# Altium footprint library PHD2.0.PcbLib: 19 footprints (part 2 of 2)
Each footprint in its own frame and in the unit in brackets; x right, y up, seen from the top. Pads: shape width x height; smd on the part's side, far side on the other; paste and mask are expansions set on the pad; w line width, h text height; cw(c..) or ccw(c..) is an arc to the next point about the centre after c.
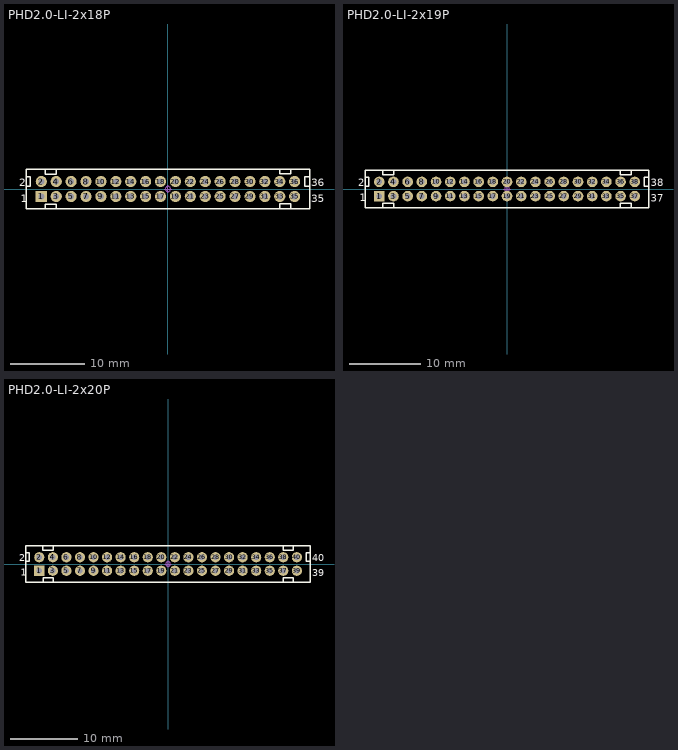
[diagram p1: the footprints below, top view; thin cyan lines are the x and y axes]

## PHD2.0-LI-2x18P [mm] "36脚，长：38mm，宽：5mm，高：6.5mm"
pads (36):
  rect 1.5x1.5 hole 0.8: 1(-17,-1)
  round 1.5 hole 0.8: 2(-17,1) 3(-15,-1) 4(-15,1) 5(-13,-1) 6(-13,1) 7(-11,-1) 8(-11,1) 9(-9,-1) 10(-9,1) 11(-7,-1) 12(-7,1) 13(-5,-1) 14(-5,1) 15(-3,-1) 16(-3,1) 17(-1,-1) 18(-1,1) 19(1,-1) 20(1,1) 21(3,-1) 22(3,1) 23(5,-1) 24(5,1) 25(7,-1) 26(7,1) 27(9,-1) 28(9,1) 29(11,-1) 30(11,1) 31(13,-1) 32(13,1) 33(15,-1) 34(15,1) 35(17,-1) 36(17,1)
Top Overlay:
  lines w0.2: -19,0.381 -18.492,0.381 -18.492,1.651 -19,1.651 ; -16.5,-2.667 -16.5,-2.032 -14.976,-2.032 -14.976,-2.667 ; -16.5,2.667 -16.5,2 -14.976,2 -14.976,2.667 ; 14.976,-2.667 14.976,-2 16.5,-2 16.5,-2.667 ; 14.976,2.667 14.976,2.032 16.5,2.032 16.5,2.667 ; 19,0.381 18.365,0.381 18.365,1.651 19,1.651 ; -19,-2.667 -19,2.667 19,2.667 19,-2.667 -19,-2.667
  text "2" at -19.996,0.381 h1.02
  text "1" at -19.75,-1.75 h1.02
  text "35" at 19.254,-1.778 h1.02
  text "36" at 19.254,0.381 h1.02
Bottom Overlay:
  lines w0.381: -17.5,0 17.5,0 ; -16,-1.5 -16,1.5 ; -14,-1.5 -14,1.5 ; -12,-1.5 -12,1.5 ; -10,-1.5 -10,1.5 ; -8,-1.5 -8,1.5 ; -6,-1.5 -6,1.5 ; -4,-1.5 -4,1.5 ; -2,-1.5 -2,1.5 ; 0,-1.5 0,1.5 ; 2,-1.5 2,1.5 ; 4,-1.5 4,1.5 ; 6,-1.5 6,1.5 ; 8,-1.5 8,1.5 ; 10,-1.5 10,1.5 ; 12,-1.5 12,1.5 ; 14,-1.5 14,1.5 ; 16,-1.5 16,1.5
Mechanical 15:
  circle w0.05: c0,0 r0.35
  lines w0.05: -0.5,0 0.5,0 ; 0,-0.5 0,0.5
3D body: height 6.55, standoff -2.75, extent -19,-2.5 19,2.5

## PHD2.0-LI-2x19P [mm] "38脚，长：40mm，宽：5mm，高：6.5mm"
pads (38):
  rect 1.5x1.5 hole 0.8: 1(-18,-1)
  round 1.5 hole 0.8: 2(-18,1) 3(-16,-1) 4(-16,1) 5(-14,-1) 6(-14,1) 7(-12,-1) 8(-12,1) 9(-10,-1) 10(-10,1) 11(-8,-1) 12(-8,1) 13(-6,-1) 14(-6,1) 15(-4,-1) 16(-4,1) 17(-2,-1) 18(-2,1) 19(0,-1) 20(0,1) 21(2,-1) 22(2,1) 23(4,-1) 24(4,1) 25(6,-1) 26(6,1) 27(8,-1) 28(8,1) 29(10,-1) 30(10,1) 31(12,-1) 32(12,1) 33(14,-1) 34(14,1) 35(16,-1) 36(16,1) 37(18,-1) 38(18,1)
Top Overlay:
  lines w0.2: -20,0.381 -19.492,0.381 -19.492,1.651 -20,1.651 ; -17.5,-2.667 -17.5,-2.032 -15.976,-2.032 -15.976,-2.667 ; -17.5,2.667 -17.5,2 -15.976,2 -15.976,2.667 ; 15.976,-2.667 15.976,-2 17.5,-2 17.5,-2.667 ; 15.976,2.667 15.976,2.032 17.5,2.032 17.5,2.667 ; 20,0.381 19.365,0.381 19.365,1.651 20,1.651 ; -20,-2.667 20,-2.667 20,2.667 -20,2.667 -20,-2.667
  text "2" at -20.996,0.381 h1.02
  text "1" at -20.75,-1.75 h1.02
  text "38" at 20.254,0.381 h1.02
  text "37" at 20.254,-1.778 h1.02
Bottom Overlay:
  lines w0.381: -18.5,0 18.5,0 ; -17,-1.5 -17,1.5 ; -15,-1.5 -15,1.5 ; -13,-1.5 -13,1.5 ; -11,-1.5 -11,1.5 ; -9,-1.5 -9,1.5 ; -7,-1.5 -7,1.5 ; -5,-1.5 -5,1.5 ; -3,-1.5 -3,1.5 ; -1,-1.5 -1,1.5 ; 1,-1.5 1,1.5 ; 3,-1.5 3,1.5 ; 5,-1.5 5,1.5 ; 7,-1.5 7,1.5 ; 9,-1.5 9,1.5 ; 11,-1.5 11,1.5 ; 13,-1.5 13,1.5 ; 15,-1.5 15,1.5 ; 17,-1.5 17,1.5
Mechanical 15:
  circle w0.05: c0,0 r0.35
  lines w0.05: -0.5,0 0.5,0 ; 0,-0.5 0,0.5
3D body: height 6.55, standoff -2.75, extent -20,-2.5 20,2.5

## PHD2.0-LI-2x20P [mm] "40脚，长：42mm，宽：5mm，高：6.5mm"
pads (40):
  rect 1.5x1.5 hole 0.8: 1(-19,-1)
  round 1.5 hole 0.8: 2(-19,1) 3(-17,-1) 4(-17,1) 5(-15,-1) 6(-15,1) 7(-13,-1) 8(-13,1) 9(-11,-1) 10(-11,1) 11(-9,-1) 12(-9,1) 13(-7,-1) 14(-7,1) 15(-5,-1) 16(-5,1) 17(-3,-1) 18(-3,1) 19(-1,-1) 20(-1,1) 21(1,-1) 22(1,1) 23(3,-1) 24(3,1) 25(5,-1) 26(5,1) 27(7,-1) 28(7,1) 29(9,-1) 30(9,1) 31(11,-1) 32(11,1) 33(13,-1) 34(13,1) 35(15,-1) 36(15,1) 37(17,-1) 38(17,1) 39(19,-1) 40(19,1)
Top Overlay:
  lines w0.2: -21,0.381 -20.492,0.381 -20.492,1.651 -21,1.651 ; -18.5,2.667 -18.5,2 -16.976,2 -16.976,2.667 ; -18.452,-2.667 -18.452,-2.032 -16.928,-2.032 -16.928,-2.667 ; 16.976,-2.667 16.976,-2 18.5,-2 18.5,-2.667 ; 16.976,2.667 16.976,2.032 18.5,2.032 18.5,2.667 ; 21,0.381 20.365,0.381 20.365,1.651 21,1.651 ; -21,-2.667 21,-2.667 21,2.667 -21,2.667 -21,-2.667
  text "2" at -21.996,0.381 h1.02
  text "1" at -21.75,-1.75 h1.02
  text "40" at 21.254,0.381 h1.02
  text "39" at 21.254,-1.778 h1.02
Bottom Overlay:
  lines w0.381: -19.5,0 19.5,0 ; -18,-1.5 -18,1.5 ; -16,-1.5 -16,1.5 ; -14,-1.5 -14,1.5 ; -12,-1.5 -12,1.5 ; -10,-1.5 -10,1.5 ; -8,-1.5 -8,1.5 ; -6,-1.5 -6,1.5 ; -4,-1.5 -4,1.5 ; -2,-1.5 -2,1.5 ; 0,-1.5 0,1.5 ; 2,-1.5 2,1.5 ; 4,-1.5 4,1.5 ; 6,-1.5 6,1.5 ; 8,-1.5 8,1.5 ; 10,-1.5 10,1.5 ; 12,-1.5 12,1.5 ; 14,-1.5 14,1.5 ; 16,-1.5 16,1.5 ; 18,-1.5 18,1.5
Mechanical 15:
  circle w0.05: c0,0 r0.35
  lines w0.05: -0.5,0 0.5,0 ; 0,-0.5 0,0.5
3D body: height 6.55, standoff -2.75, extent -21,-2.5 21,2.5